# Altium schematic symbol library Crystals.SchLib: 2 symbols
Pins are listed as number, name and electrical type; pins without a type are passive.

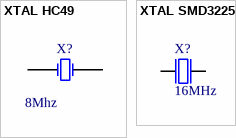
[diagram p0: symbols XTAL HC49 to XTAL SMD3225]

## XTAL HC49
designator X?  value 8Mhz  (hidden comment: XTAL HC49)
Crystal Oscillator HC49; Published: 8-Jun-2000; LatestRevisionDate: 17-Jul-2002; LatestRevisionNote: Re-released for DXP Platform.; PackageReference: R38; Publisher: Altium Limited; PackageDescription: Crystal, Thru-Hole; 2 Leads; Body 3.1 x 8.2 mm (Dia.xH)
simulation model XTAL (Spice Subcircuit)
footprint XTAL HC49 high
footprint XTAL HC49 low
pins: 1 OSC1, 2 OSC2

## XTAL SMD3225
designator X?, comment 16MHz
Crystal Oscillator SMD3225; Part Number: NX2520SA-16MHZ-STD-CSW-5; Manufacturer: NDK; Note: XTAL SMD 16.000MHz; Artikkelnr Noca: 22019192; Artikkelnr Simpro: N.A.; Manufacturer Part Number: NX2520SA-16MHZ-STD-CSW-5; Datasheet: http://www.ndk.com/images/products/catalog/c_NX2520SA-STD-CSW-5_e.pdf; LatestRevisionDate: 2012-06-15; Pin Count: 4; Publisher: Nordic Semiconductor; Published: 2012-06-15; Value: 16MHz; Supplier: Digi-Key; Supplier part number: 644-1169-1-ND; 2nd source Supplier: *; 2nd source part number: *; Footprint Doc: BT-XTAL_2520
footprint XTAL SMD3225
pins: 1 inp, 2 GND hidden to GND, 3 out, 4 GND hidden to GND